# EAGLE library part TPS63020DSJR (library TPS63020)
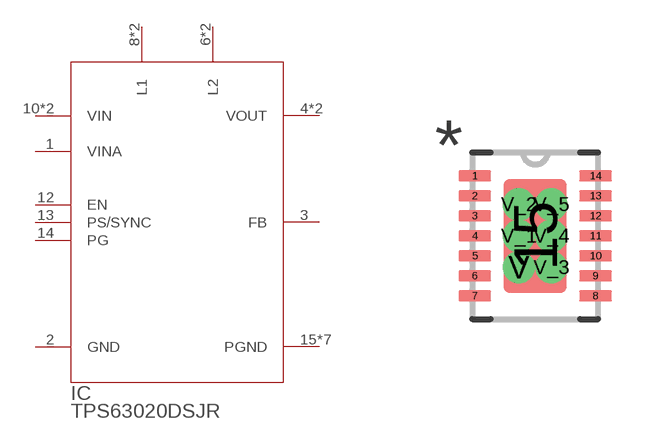
[diagram p0: symbol with the pads of DSJ14_2P85X1P58; footprint DSJ14_2P85X1P58]

Designator prefix IC

## TPS63020DSJR (DATASHEET_URL: http://www.ti.com/lit/gpn/TPS63020; DESCRIPTION: High Efficiency Single Inductor Buck-Boost Converter with 4A Switch; FAMILY_NAME: BUCK-BOOST REGULATOR; GENERIC_PART_NUMBER: TPS63020; INDUSTRY_STD_PKG_TYPE: VSON; MANUFACTURER: Texas Instruments; MANUFACTURER_PART_NUMBER: TPS63020DSJR; PACKAGE_DESIGNATOR: DSJ; PIN_COUNT: 14; VENDOR: Texas Instruments)  [DSJ14_2P85X1P58]
1  VINA  in
2  GND  pwr
3  FB  in
4  VOUT  out
5  VOUT  out
6  L2  pas
7  L2  pas
8  L1  pas
9  L1  pas
10  VIN  in
11  VIN  in
12  EN  in
13  PS/SYNC  in
14  PG  oc
15  PGND  pas
V  PGND  pas
V_1  PGND  pas
V_2  PGND  pas
V_3  PGND  pas
V_4  PGND  pas
V_5  PGND  pas

## Footprint DSJ14_2P85X1P58 (pad centres in mm)
smd 0.82 x 0.28: 1 -1.51,1.5; 2 -1.51,1; 3 -1.51,0.5; 4 -1.51,0; 5 -1.51,-0.5; 6 -1.51,-1; 7 -1.51,-1.5; 8 1.51,-1.5; 9 1.51,-1; 10 1.51,-0.5; 11 1.51,0; 12 1.51,0.5; 13 1.51,1; 14 1.51,1.5
smd 1.58 x 2.85: 15 0,0
drill 0.3 pad 0.508: V -0.406,-0.787; V_1 -0.406,0; V_2 -0.406,0.787; V_3 0.406,-0.787; V_4 0.406,0; V_5 0.406,0.787